# Altium footprint library Display.PcbLib: 52 footprints (part 2 of 4)
Each footprint in its own frame and in the unit in brackets; x right, y up, seen from the top. Pads: shape width x height; smd on the part's side, far side on the other; paste and mask are expansions set on the pad; w line width, h text height; cw(c..) or ccw(c..) is an arc to the next point about the centre after c.
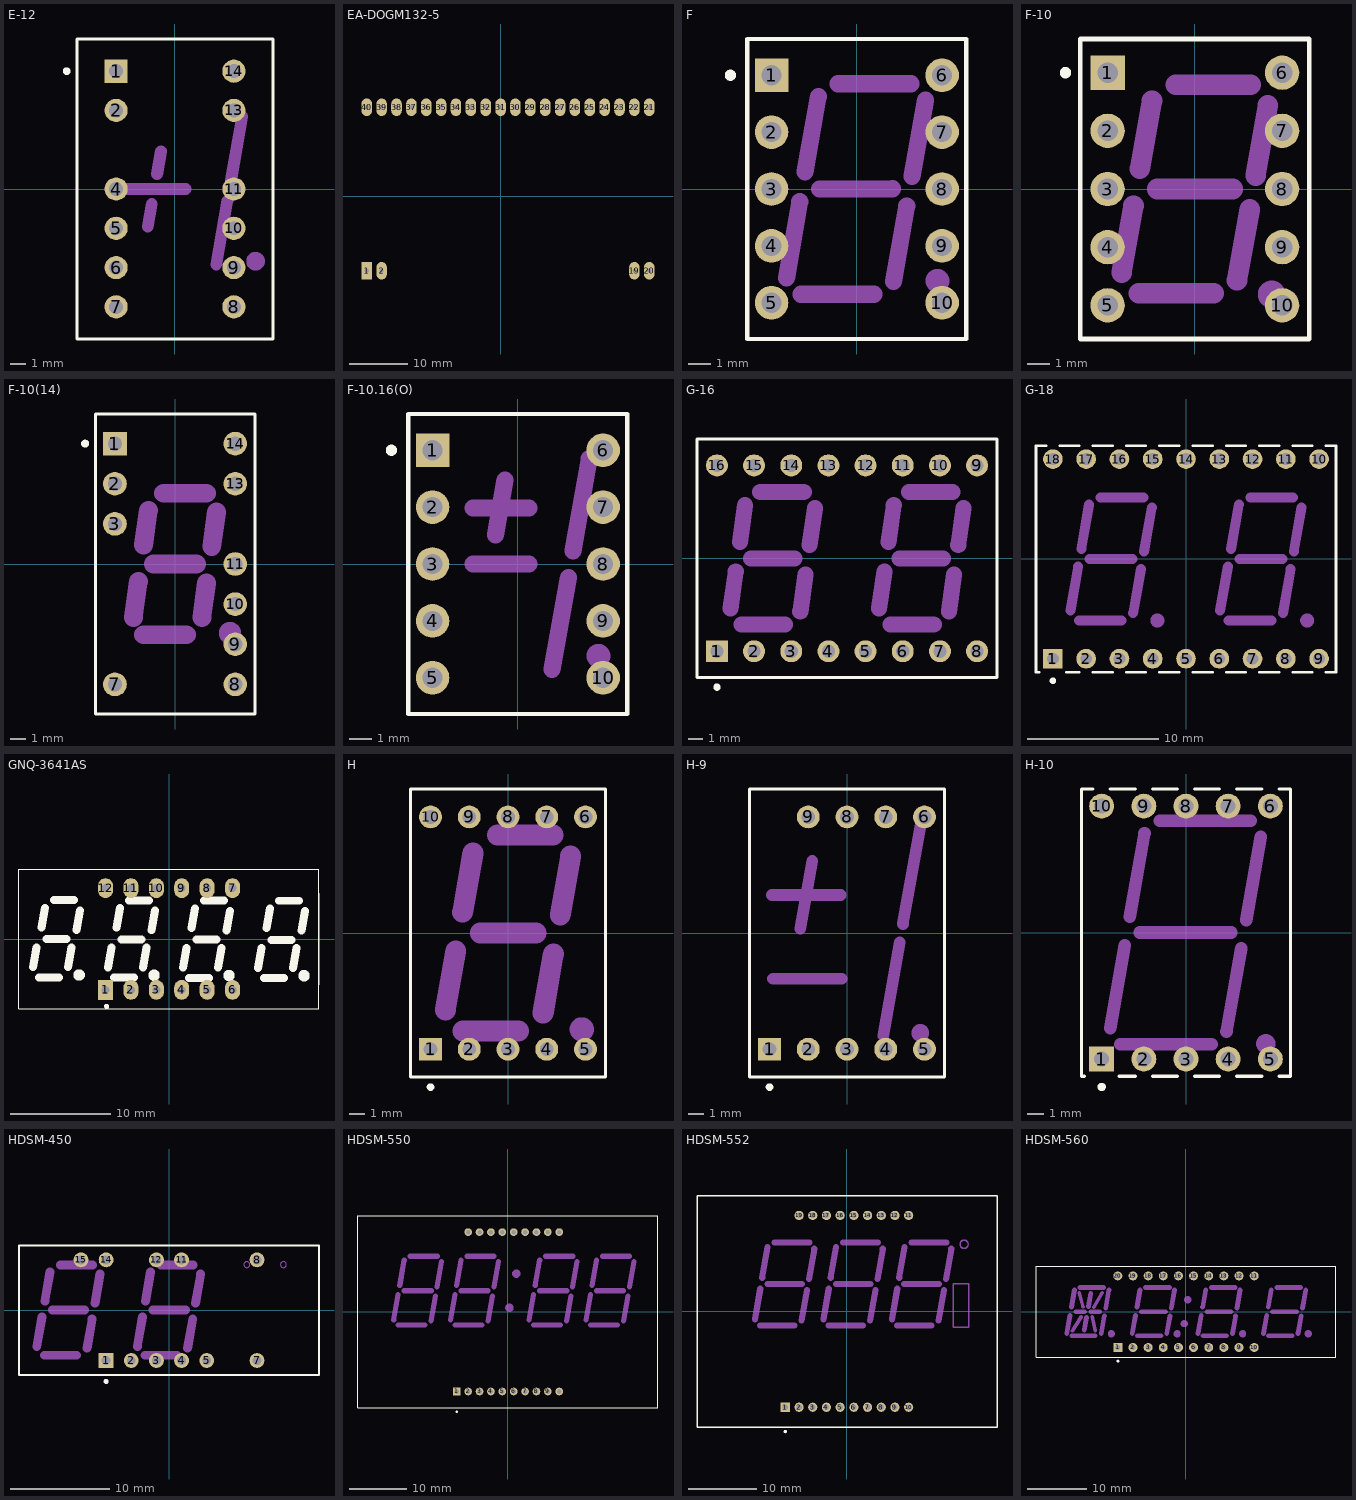
[diagram p1: the footprints below, top view; thin cyan lines are the x and y axes]

## E-12 [mm] "LED, Universal ±1 Overflow, 10.92 mm, RHD; 14 Leads (2 Absent); Row Space 7.62 mm; Pitch 2.54 mm"
height 8.13
pads (12):
  rect 1.5x1.5 hole 0.9: 1(-3.81,7.62)
  round 1.5 hole 0.9: 2(-3.81,5.08) 4(-3.81,0) 5(-3.81,-2.54) 6(-3.81,-5.08) 7(-3.81,-7.62) 8(3.81,-7.62) 9(3.81,-5.08) 10(3.81,-2.54) 11(3.81,0) 13(3.81,5.08) 14(3.81,7.62)
Top Overlay:
  circle w0.25: c-7,7.62 r0.125
  lines w0.2: -6.35,-9.7 -6.35,9.7 6.35,9.7 6.35,-9.7 -6.35,-9.7
Mechanical 1:
  circle w0.86: c5.21,-4.67 r0.17
  lines w0.762: -3.395,0 0.7,0 ; -1.764,-2.435 -1.506,-0.963 ; -1.167,0.961 -0.908,2.436 ; 2.661,-4.885 3.39,-0.763 ; 3.619,0.556 4.351,4.692

## EA-DOGM132-5 [mm]
pads (24):
  rect 1.8x3 hole 0.7: 1(-22.86,-12.7)
  oval 1.8x3 hole 0.7: 2(-20.32,-12.7) 19(22.86,-12.7) 20(25.4,-12.7) 21(25.4,15.24) 22(22.86,15.24) 23(20.32,15.24) 24(17.78,15.24) 25(15.24,15.24) 26(12.7,15.24) 27(10.16,15.24) 28(7.62,15.24) 29(5.08,15.24) 30(2.54,15.24) 31(0,15.24) 32(-2.54,15.24) 33(-5.08,15.24) 34(-7.62,15.24) 35(-10.16,15.24) 36(-12.7,15.24) 37(-15.24,15.24) 38(-17.78,15.24) 39(-20.32,15.24) 40(-22.86,15.24)
Top Layer:
  text "EA-DOGM132-5" at -22.86,-10.16 h1.52
3D body "User Library-EA-DOGM132-5.step": height 5.6, standoff -2.4, extent -26.98,-12.873 28.02,15.667

## F [mm] "LED, 7-Segment Display, 10.16 mm, RHD; 10 Leads; Row Space 7.62 mm; Pitch 2.54 mm"
height 6.34
pads (10):
  rect 1.5x1.5 hole 0.9: 1(-3.81,5.08)
  round 1.5 hole 0.9: 2(-3.81,2.54) 3(-3.81,0) 4(-3.81,-2.54) 5(-3.81,-5.08) 6(3.81,5.08) 7(3.81,2.54) 8(3.81,0) 9(3.81,-2.54) 10(3.81,-5.08)
Top Overlay:
  circle w0.25: c-5.65,5.08 r0.125
  lines w0.2: -4.895,-6.7 4.895,-6.7 4.895,6.7 -4.895,6.7 -4.895,-6.7
Mechanical 1:
  circle w0.86: c3.6,-4.1 r0.1
  lines w0.762: -3.14,-3.98 -2.55,-0.57 ; -2.5,-4.7 0.77,-4.7 ; -2.31,0.77 -1.72,4.13 ; -1.67,0 1.6,0.01 ; -0.84,4.7 2.42,4.7 ; 1.64,-4.13 2.23,-0.75 ; 2.47,0.57 3.07,3.97

## F-10 [mm] "LED, 7-Segment Display, 10 mm, RHD; 10 Leads; Row Space 7.62 mm; Pitch 2.54 mm"
height 7.25
pads (10):
  rect 1.5x1.5 hole 0.9: 1(-3.81,5.08)
  round 1.5 hole 0.9: 2(-3.81,2.54) 3(-3.81,0) 4(-3.81,-2.54) 5(-3.81,-5.08) 6(3.81,5.08) 7(3.81,2.54) 8(3.81,0) 9(3.81,-2.54) 10(3.81,-5.08)
Top Overlay:
  circle w0.25: c-5.65,5.08 r0.125
  lines w0.2: -5,-6.55 -5,6.55 5,6.55 5,-6.55 -5,-6.55
Mechanical 1:
  circle w0.86: c3.35,-4.6 r0.17
  lines w0.9: -3.2,-3.65 -2.68,-0.73 ; -2.44,-4.55 0.83,-4.55 ; -2.4,0.89 -1.87,3.86 ; -1.65,0 1.65,0 ; -0.83,4.55 2.44,4.55 ; 1.84,-3.98 2.39,-0.89 ; 2.65,0.58 3.19,3.66

## F-10(14) [mm] "LED, 7-Segment Display, 10.16 mm, RHD; 14 Leads (4 Absent); Row Space 7.62 mm; Pitch 2.54 mm"
height 5.36
pads (10):
  rect 1.5x1.5 hole 0.9: 1(-3.81,7.62)
  round 1.5 hole 0.9: 2(-3.81,5.08) 3(-3.81,2.54) 7(-3.81,-7.62) 8(3.81,-7.62) 9(3.81,-5.08) 10(3.81,-2.54) 11(3.81,0) 13(3.81,5.08) 14(3.81,7.62)
Top Overlay:
  circle w0.25: c-5.7,7.62 r0.125
  lines w0.2: -5.05,-9.5 -5.05,9.5 5.05,9.5 5.05,-9.5 -5.05,-9.5
Mechanical 1:
  circle w1: c3.47,-4.373 r0.2
  lines w1.2: -2.647,-3.381 -2.328,-1.099 ; -2.002,1.2 -1.696,3.38 ; -1.992,-4.48 0.733,-4.48 ; -1.361,0 1.361,0 ; -0.731,4.48 1.993,4.48 ; 1.69,-3.38 1.99,-1.2 ; 2.32,1.1 2.62,3.28

## F-10.16(O) [mm] "LED, Universal ±1 Overflow, 10.16 mm, RHD; 10 Leads; Row Space 7.62 mm; Pitch 2.54 mm"
height 6.34
pads (10):
  rect 1.5x1.5 hole 0.9: 1(-3.81,5.08)
  round 1.5 hole 0.9: 2(-3.81,2.54) 3(-3.81,0) 4(-3.81,-2.54) 5(-3.81,-5.08) 6(3.81,5.08) 7(3.81,2.54) 8(3.81,0) 9(3.81,-2.54) 10(3.81,-5.08)
Top Overlay:
  circle w0.25: c-5.65,5.08 r0.125
  lines w0.2: -4.895,-6.7 -4.895,6.7 4.895,6.7 4.895,-6.7 -4.895,-6.7
Mechanical 1:
  circle w0.86: c3.6,-4.1 r0.1
  lines w0.762: -2,0 0.5,0 ; -2,2.5 0.5,2.5 ; -1,1.3 -0.57,3.76 ; 1.53,-4.7 2.26,-0.6 ; 2.46,0.59 3.19,4.7

## G-16 [mm] "LED, 7-Segment Display, 10.16 mm, Dual Digit; 16 Leads; Row Space 12.7 mm; Pitch 2.54 mm"
height 7.16
pads (16):
  rect 1.5x1.5 hole 0.9: 1(16.51,-6.35)
  round 1.5 hole 0.9: 2(19.05,-6.35) 3(21.59,-6.35) 4(24.13,-6.35) 5(26.67,-6.35) 6(29.21,-6.35) 7(31.75,-6.35) 8(34.29,-6.35) 9(34.29,6.35) 10(31.75,6.35) 11(29.21,6.35) 12(26.67,6.35) 13(24.13,6.35) 14(21.59,6.35) 15(19.05,6.35) 16(16.51,6.35)
Top Overlay:
  circle w0.25: c16.51,-8.8 r0.125
  lines w0.2: 15.15,-8.15 15.15,8.15 35.65,8.15 35.65,-8.15 15.15,-8.15
Mechanical 1:
  lines w1.1: 17.44,-3.432 17.797,-0.898 ; 18.077,1.104 18.433,3.628 ; 18.199,-4.53 21.169,-4.53 ; 18.834,0 21.806,0 ; 19.475,4.53 22.443,4.53 ; 22.208,-3.63 22.563,-1.102 ; 22.844,0.904 23.202,3.432 ; 27.6,-3.432 27.957,-0.898 ; 28.237,1.104 28.593,3.628 ; 28.359,-4.53 31.329,-4.53 ; 28.994,0 31.966,0 ; 29.635,4.53 32.603,4.53 ; 32.368,-3.63 32.723,-1.102 ; 33.004,0.904 33.362,3.432

## G-18 [mm] "LED, 7-Segment Display, 10.16 mm, Dual Digit; 18 Leads; Row Space 15.24 mm; Pitch 2.54 mm"
height 6.35
pads (18):
  rect 1.5x1.5 hole 0.9: 1(-10.16,-7.62)
  round 1.5 hole 0.9: 2(-7.62,-7.62) 3(-5.08,-7.62) 4(-2.54,-7.62) 5(0,-7.62) 6(2.54,-7.62) 7(5.08,-7.62) 8(7.62,-7.62) 9(10.16,-7.62) 10(10.16,7.62) 11(7.62,7.62) 12(5.08,7.62) 13(2.54,7.62) 14(0,7.62) 15(-2.54,7.62) 16(-5.08,7.62) 17(-7.62,7.62) 18(-10.16,7.62)
Top Overlay:
  circle w0.25: c-10.16,-9.3 r0.125
  lines w0.2: -11.2,-8.65 -11.45,-8.65 -11.45,8.65 -10.68,8.65 ; -9.64,8.65 -8.14,8.65 ; -9.12,-8.65 -8.14,-8.65 ; -7.1,-8.65 -5.6,-8.65 ; -7.1,8.65 -5.6,8.65 ; -4.56,-8.65 -3.06,-8.65 ; -4.56,8.65 -3.06,8.65 ; -2.02,-8.65 -0.52,-8.65 ; -2.02,8.65 -0.52,8.65 ; 0.52,-8.65 2.02,-8.65 ; 0.52,8.65 2.02,8.65 ; 3.06,-8.65 4.56,-8.65 ; 3.06,8.65 4.56,8.65 ; 5.6,-8.65 7.1,-8.65 ; 5.6,8.65 7.1,8.65 ; 8.14,-8.65 9.64,-8.65 ; 8.14,8.65 9.64,8.65 ; 10.68,-8.65 11.45,-8.65 11.45,8.65 10.68,8.65
Mechanical 1:
  circle w0.86: c9.248,-4.7 r0.1
  circle w0.86: c-2.182,-4.7 r0.1
  lines w0.762: -8.823,-3.935 -8.229,-0.562 ; -8.182,-4.7 -4.907,-4.7 ; -7.994,0.765 -7.401,4.137 ; -7.356,0 -4.074,0 ; -6.526,4.7 -3.248,4.7 ; -4.031,-4.136 -3.438,-0.763 ; -3.203,0.564 -2.61,3.938 ; 2.607,-3.935 3.201,-0.562 ; 3.248,-4.7 6.523,-4.7 ; 3.436,0.765 4.029,4.137 ; 4.074,0 7.356,0 ; 4.904,4.7 8.182,4.7 ; 7.399,-4.136 7.992,-0.763 ; 8.227,0.564 8.82,3.938

## GNQ-3641AS [mm]
height 7.2
pads (12):
  rect 1.5x2 hole 0.8: 1(-6.35,-5.08)
  oval 1.5x2 hole 0.8: 2(-3.81,-5.08) 3(-1.27,-5.08) 4(1.27,-5.08) 5(3.81,-5.08) 6(6.35,-5.08) 7(6.35,5.08) 8(3.81,5.08) 9(1.27,5.08) 10(-1.27,5.08) 11(-3.81,5.08) 12(-6.35,5.08)
Top Overlay:
  circle w0.25: c-6.25,-6.75 r0.125
  circle w0.8: c-9,-3.6 r0.17
  circle w0.8: c-1.5,-3.625 r0.17
  circle w0.8: c6,-3.649 r0.17
  circle w0.8: c13.5,-3.674 r0.17
  lines w0.1: 15,-4.6 15,4.6 ; -15.01,-7 14.99,-7 14.99,7 -15.01,7 -15.01,-7
  lines w0.8: -13.597,-2.82 -13.25,-0.85 ; -13,-3.85 -11,-3.85 ; -12.75,1.15 -12.403,3.12 ; -12.25,-0.012 -10.25,-0.012 ; -11.5,3.9 -9.5,3.9 ; -10.092,-2.821 -9.75,-0.85 ; -9.25,0.9 -8.896,2.868 ; -6.098,-2.844 -5.75,-0.875 ; -5.5,-3.875 -3.5,-3.875 ; -5.25,1.125 -4.903,3.095 ; -4.75,-0.037 -2.75,-0.037 ; -4,3.875 -2,3.875 ; -2.592,-2.845 -2.25,-0.875 ; -1.75,0.875 -1.397,2.844 ; 1.402,-2.869 1.75,-0.899 ; 2,-3.899 4,-3.899 ; 2.25,1.101 2.597,3.07 ; 2.75,-0.061 4.75,-0.061 ; 3.5,3.851 5.5,3.851 ; 4.908,-2.87 5.25,-0.899 ; 5.75,0.851 6.103,2.819 ; 8.902,-2.893 9.25,-0.924 ; 9.5,-3.924 11.5,-3.924 ; 9.75,1.076 10.097,3.046 ; 10.25,-0.086 12.25,-0.086 ; 11,3.826 13,3.826 ; 12.408,-2.894 12.75,-0.924 ; 13.25,0.826 13.603,2.795
3D body "User Library-3641_Red_jam.step": height 7.1, standoff -5.5, extent -15,-7 15,7

## H [mm] "LED, 7-Segment Display, 14.2 mm, RHD; 10 Leads; Row Space 15.24 mm; Pitch 2.54 mm"
height 8.25
pads (10):
  rect 1.5x1.5 hole 0.9: 1(-5.08,-7.62)
  round 1.5 hole 0.9: 2(-2.54,-7.62) 3(0,-7.62) 4(2.54,-7.62) 5(5.08,-7.62) 6(5.08,7.62) 7(2.54,7.62) 8(0,7.62) 9(-2.54,7.62) 10(-5.08,7.62)
Top Overlay:
  circle w0.25: c-5.08,-10.1 r0.125
  lines w0.2: -6.4,-9.45 -6.4,9.45 6.4,9.45 6.4,-9.45 -6.4,-9.45
Mechanical 1:
  circle w1: c4.842,-6.316 r0.296
  lines w1.37: -4.108,-5.054 -3.425,-1.17 ; -2.974,1.368 -2.293,5.255 ; -2.958,-6.429 0.692,-6.426 ; -1.821,0 1.828,0 ; -0.689,6.425 2.96,6.425 ; 2.295,-5.256 2.98,-1.371 ; 3.427,1.169 4.11,5.058

## H-9 [mm] "LED, Universal ±1 Overflow, 14.22 mm, RHD; 10 Leads (1 Absent); Row Space 15.24 mm; Pitch 2.54 mm"
height 8.25
pads (9):
  rect 1.5x1.5 hole 0.9: 1(-5.08,-7.62)
  round 1.5 hole 0.9: 2(-2.54,-7.62) 3(0,-7.62) 4(2.54,-7.62) 5(5.08,-7.62) 6(5.08,7.62) 7(2.54,7.62) 8(0,7.62) 9(-2.54,7.62)
Top Overlay:
  circle w0.25: c-5.08,-10.1 r0.125
  lines w0.2: -6.4,-9.45 6.4,-9.45 6.4,9.45 -6.4,9.45 -6.4,-9.45
Mechanical 1:
  circle w0.86: c4.81,-6.55 r0.15
  lines w0.762: -4.92,2.5 -0.42,2.5 ; -4.85,-3 -0.35,-3 ; -3.063,0.289 -2.28,4.73 ; 2.38,-6.73 3.46,-0.6 ; 3.67,0.6 4.86,7.31

## H-10 [mm] "LED, 7-Segment Display, 14.22 mm, RHD; 10 Leads; Row Space 15.24 mm; Pitch 2.54 mm"
height 8.25
pads (10):
  rect 1.5x1.5 hole 0.9: 1(-5.08,-7.62)
  round 1.5 hole 0.9: 2(-2.54,-7.62) 3(0,-7.62) 4(2.54,-7.62) 5(5.08,-7.62) 6(5.08,7.62) 7(2.54,7.62) 8(0,7.62) 9(-2.54,7.62) 10(-5.08,7.62)
Top Overlay:
  circle w0.25: c-5.08,-9.3 r0.125
  lines w0.2: -6.12,-8.65 -6.3,-8.65 -6.3,8.65 -5.6,8.65 ; -4.56,8.65 -3.06,8.65 ; -4.04,-8.65 -3.06,-8.65 ; -2.02,-8.65 -0.52,-8.65 ; -2.02,8.65 -0.52,8.65 ; 0.52,-8.65 2.02,-8.65 ; 0.52,8.65 2.02,8.65 ; 3.06,-8.65 4.56,-8.65 ; 3.06,8.65 4.56,8.65 ; 5.6,-8.65 6.3,-8.65 6.3,8.65 5.6,8.65
Mechanical 1:
  circle w0.86: c4.81,-6.7 r0.15
  lines w0.762: -4.57,-5.76 -3.69,-0.77 ; -3.97,-6.729 1.54,-6.729 ; -3.386,0.961 -2.5,5.98 ; -2.78,0 2.72,0 ; -1.58,6.729 3.91,6.729 ; 2.44,-5.96 3.32,-0.96 ; 3.63,0.76 4.51,5.78

## HDSM-450 [mm] "LED, Custom Display Module; 15 Leads (4 Absent); Row Space 10.16 mm; Pitch 2.54 mm"
height 7.25
pads (11):
  rect 1.5x1.5 hole 0.9: 1(-6.35,-5.08)
  round 1.5 hole 0.9: 2(-3.81,-5.08) 3(-1.27,-5.08) 4(1.27,-5.08) 5(3.81,-5.08) 7(8.89,-5.08) 8(8.89,5.08) 11(1.27,5.08) 12(-1.27,5.08) 14(-6.35,5.08) 15(-8.89,5.08)
Top Overlay:
  circle w0.25: c-6.35,-7.2 r0.125
  lines w0.2: -15.15,-6.55 15.15,-6.55 15.15,6.55 -15.15,6.55 -15.15,-6.55
Mechanical 1:
  circle w0.1: c7.86,4.6 r0.3
  circle w0.1: c11.56,4.6 r0.3
  lines w0.9: -13.36,-3.65 -12.83,-0.7 ; -12.592,-4.55 -9.33,-4.55 ; -12.54,0.9 -12.03,3.84 ; -11.79,0 -8.51,0 ; -10.988,4.55 -7.72,4.55 ; -8.28,-3.85 -7.76,-0.9 ; -7.48,0.7 -6.96,3.65 ; -3.2,-3.65 -2.67,-0.7 ; -2.432,-4.55 0.83,-4.55 ; -2.38,0.9 -1.87,3.84 ; -1.63,0 1.65,0 ; -0.828,4.55 2.44,4.55 ; 1.88,-3.85 2.4,-0.9 ; 2.68,0.7 3.2,3.65
  text "HRS" at 8.36,-4.4 h2
  text "C" at 12.36,2.4 h2
  text "MINS" at 7.96,-1 h2
  text "F" at 8.86,2.4 h2

## HDSM-550 [mm] "LED, Clock Display Module; 20 Leads (1 Absent); Row Space 28 mm; Pitch 2 mm"
height 8.25
pads (19):
  rect 1.35x1.35 hole 0.8: 1(-9,-14)
  round 1.35 hole 0.8: 2(-7,-14) 3(-5,-14) 4(-3,-14) 5(-1,-14) 6(1,-14) 7(3,-14) 8(5,-14) 9(7,-14) 10(9,-14) 11(9,14) 12(7,14) 13(5,14) 14(3,14) 15(1,14) 16(-1,14) 17(-3,14) 18(-5,14) 19(-7,14)
Top Overlay:
  circle w0.25: c-9,-17.55 r0.125
  lines w0.2: -26.35,-16.9 -26.35,16.9 26.35,16.9 26.35,-16.9 -26.35,-16.9
Mechanical 1:
  circle w1.2: c0.25,0.7 r0.15
  circle w1.2: c1.47,6.7 r0.15
  lines w0.9: -20.08,-1.45 -19.3,3 ; -19.33,-2.35 -14.56,-2.35 ; -19.02,4.6 -18.23,9.05 ; -18.26,3.7 -13.49,3.7 ; -17.19,9.75 -12.43,9.75 ; -13.52,-1.65 -12.74,2.8 ; -12.45,4.4 -11.67,8.85 ; -10.08,-1.45 -9.3,3 ; -9.33,-2.35 -4.56,-2.35 ; -9.02,4.6 -8.23,9.05 ; -8.26,3.7 -3.49,3.7 ; -7.19,9.75 -2.43,9.75 ; -3.52,-1.65 -2.74,2.8 ; -2.45,4.4 -1.67,8.85 ; 3.72,-1.45 4.5,3 ; 4.47,-2.35 9.24,-2.35 ; 4.78,4.6 5.57,9.05 ; 5.54,3.7 10.31,3.7 ; 6.61,9.75 11.37,9.75 ; 10.28,-1.65 11.06,2.8 ; 11.35,4.4 12.13,8.85 ; 13.72,-1.45 14.5,3 ; 14.47,-2.35 19.24,-2.35 ; 14.78,4.6 15.57,9.05 ; 15.54,3.7 20.31,3.7 ; 16.61,9.75 21.37,9.75 ; 20.28,-1.65 21.06,2.8 ; 21.35,4.4 22.13,8.85
  text "COOK" at -11.3,-10.5 h2.4
  text "START" at -11.3,-7 h2.4
  text "S" at -22.8,7.9 h2.8
  text "T" at -22.8,0.3 h2.8
  text "E" at -22.8,4.1 h2.8
  text "DIG 4" at -16.85,11.2 h1
  text "DIG 3" at -6.85,11.2 h1
  text "DIG 2" at 7.15,11.2 h1
  text "DIG 1" at 17.15,11.2 h1
  text "STOP" at 1.5,-10.3 h2.4
  text "CLOCK" at 1.45,-6.8 h2.4
  text "TIMER" at 12.6,-10.3 h2.4
  text "CLEAN" at 12.6,-6.8 h2.4
  text "HR" at -6.252,6.886 h1.5

## HDSM-552 [mm] "LED, Temperature Display Module; 20 Leads (1 Absent); Row Space 28 mm; Pitch 2 mm"
height 8.25
pads (19):
  rect 1.35x1.35 hole 0.8: 1(-9,-14)
  round 1.35 hole 0.8: 2(-7,-14) 3(-5,-14) 4(-3,-14) 5(-1,-14) 6(1,-14) 7(3,-14) 8(5,-14) 9(7,-14) 10(9,-14) 11(9,14) 12(7,14) 13(5,14) 14(3,14) 15(1,14) 16(-1,14) 17(-3,14) 18(-5,14) 19(-7,14)
Top Overlay:
  circle w0.25: c-9,-17.55 r0.125
  lines w0.2: -21.9,-16.9 21.9,-16.9 21.9,16.9 -21.9,16.9 -21.9,-16.9
Mechanical 1:
  circle w0.2: c17.1,9.8 r0.6
  lines w0.2: 15.5,-2.3 15.5,4 17.8,4 17.8,-2.3 15.5,-2.3
  lines w0.9: -13.44,-1.15 -12.66,3.3 ; -12.69,-2.05 -7.66,-2.05 ; -12.38,4.9 -11.59,9.35 ; -11.63,4 -6.59,4 ; -10.56,10.05 -5.52,10.05 ; -6.62,-1.35 -5.83,3.1 ; -5.55,4.71 -4.77,9.15 ; -3.44,-1.15 -2.66,3.3 ; -2.69,-2.05 2.34,-2.05 ; -2.38,4.9 -1.59,9.35 ; -1.63,4 3.41,4 ; -0.56,10.05 4.48,10.05 ; 3.38,-1.35 4.17,3.1 ; 4.45,4.71 5.23,9.15 ; 6.56,-1.15 7.34,3.3 ; 7.31,-2.05 12.34,-2.05 ; 7.62,4.9 8.41,9.35 ; 8.37,4 13.41,4 ; 9.44,10.05 14.48,10.05 ; 13.38,-1.35 14.17,3.1 ; 14.45,4.71 15.23,9.15
  text "CLEAN" at 7,-10 h2.2
  text "BROIL" at -4,-10 h2.2
  text "PROBE" at -16,-10 h2.2
  text "BAKE" at 7,-6.5 h2.2
  text "CONV" at -4,-6.5 h2.2
  text "DELAY" at -16,-6.5 h2.2
  text "S" at -16,8.2 h2.8
  text "T" at -16,0.6 h2.8
  text "E" at -16,4.4 h2.8
  text "DIG 5" at 10.15,10.76 h1
  text "DIG 7" at -9.85,10.76 h1
  text "DIG 6" at 0.15,10.76 h1
  text "O" at 15.9,1.1 h2
  text "N" at 16,-1.6 h2

## HDSM-560 [mm] "LED, 7-Segment Display, 8.9 mm, Four Digit; 20 Leads; Row Space 12 mm; Pitch 2.54 mm"
height 15.75
pads (20):
  rect 1.5x1.5 hole 0.9: 1(-11.43,-6)
  round 1.5 hole 0.9: 2(-8.89,-6) 3(-6.35,-6) 4(-3.81,-6) 5(-1.27,-6) 6(1.27,-6) 7(3.81,-6) 8(6.35,-6) 9(8.89,-6) 10(11.43,-6) 11(11.43,6) 12(8.89,6) 13(6.35,6) 14(3.81,6) 15(1.27,6) 16(-1.27,6) 17(-3.81,6) 18(-6.35,6) 19(-8.89,6) 20(-11.43,6)
Top Overlay:
  circle w0.25: c-11.43,-8.3 r0.125
  lines w0.2: -25.15,-7.65 -25.15,7.65 25.15,7.65 25.15,-7.65 -25.15,-7.65
Mechanical 1:
  circle w1: c20.5,-3.7 r0.1
  circle w1: c9.5,-3.7 r0.1
  circle w1: c-12.5,-3.7 r0.1
  circle w1: c-1.5,-3.7 r0.1
  circle w1: c-0.3,-2 r0.1
  circle w1: c0.3,2 r0.1
  lines w0.6: -19.034,-3.191 -17.564,-0.855 ; -17.92,3.166 -17.267,0.812 ; -15.737,-0.853 -15.184,-3.199 ; -15.451,0.777 -14.06,3.158
  lines w0.8: -19.997,-3.644 -19.453,-0.589 ; -19.212,0.795 -18.707,3.668 ; -19.165,-4.05 -15.201,-4.05 ; -18.488,0 -17,0 ; -17.778,4.05 -13.789,4.05 ; -17.067,-3.1 -16.673,-0.95 ; -16.345,0.869 -15.952,3.074 ; -15.987,0 -14.45,0 ; -14.214,-3.647 -13.683,-0.68 ; -13.465,0.587 -12.93,3.65 ; -8.997,-3.644 -8.453,-0.589 ; -8.212,0.795 -7.707,3.668 ; -8.165,-4.05 -4.201,-4.05 ; -7.488,0 -3.45,0 ; -6.778,4.05 -2.789,4.05 ; -3.214,-3.647 -2.683,-0.68 ; -2.465,0.587 -1.93,3.65 ; 2.003,-3.644 2.547,-0.589 ; 2.788,0.795 3.293,3.668 ; 2.835,-4.05 6.799,-4.05 ; 3.512,0 7.55,0 ; 4.222,4.05 8.211,4.05 ; 7.786,-3.647 8.317,-0.68 ; 8.535,0.587 9.07,3.65 ; 13.003,-3.644 13.547,-0.589 ; 13.788,0.795 14.293,3.668 ; 13.835,-4.05 17.799,-4.05 ; 14.512,0 18.55,0 ; 15.222,4.05 19.211,4.05 ; 18.786,-3.647 19.317,-0.68 ; 19.535,0.587 20.07,3.65